# Altium integrated library EL.MBRD.T01.IntLib: 51 symbols
Pins are listed as number, name and electrical type; pins without a type are passive.

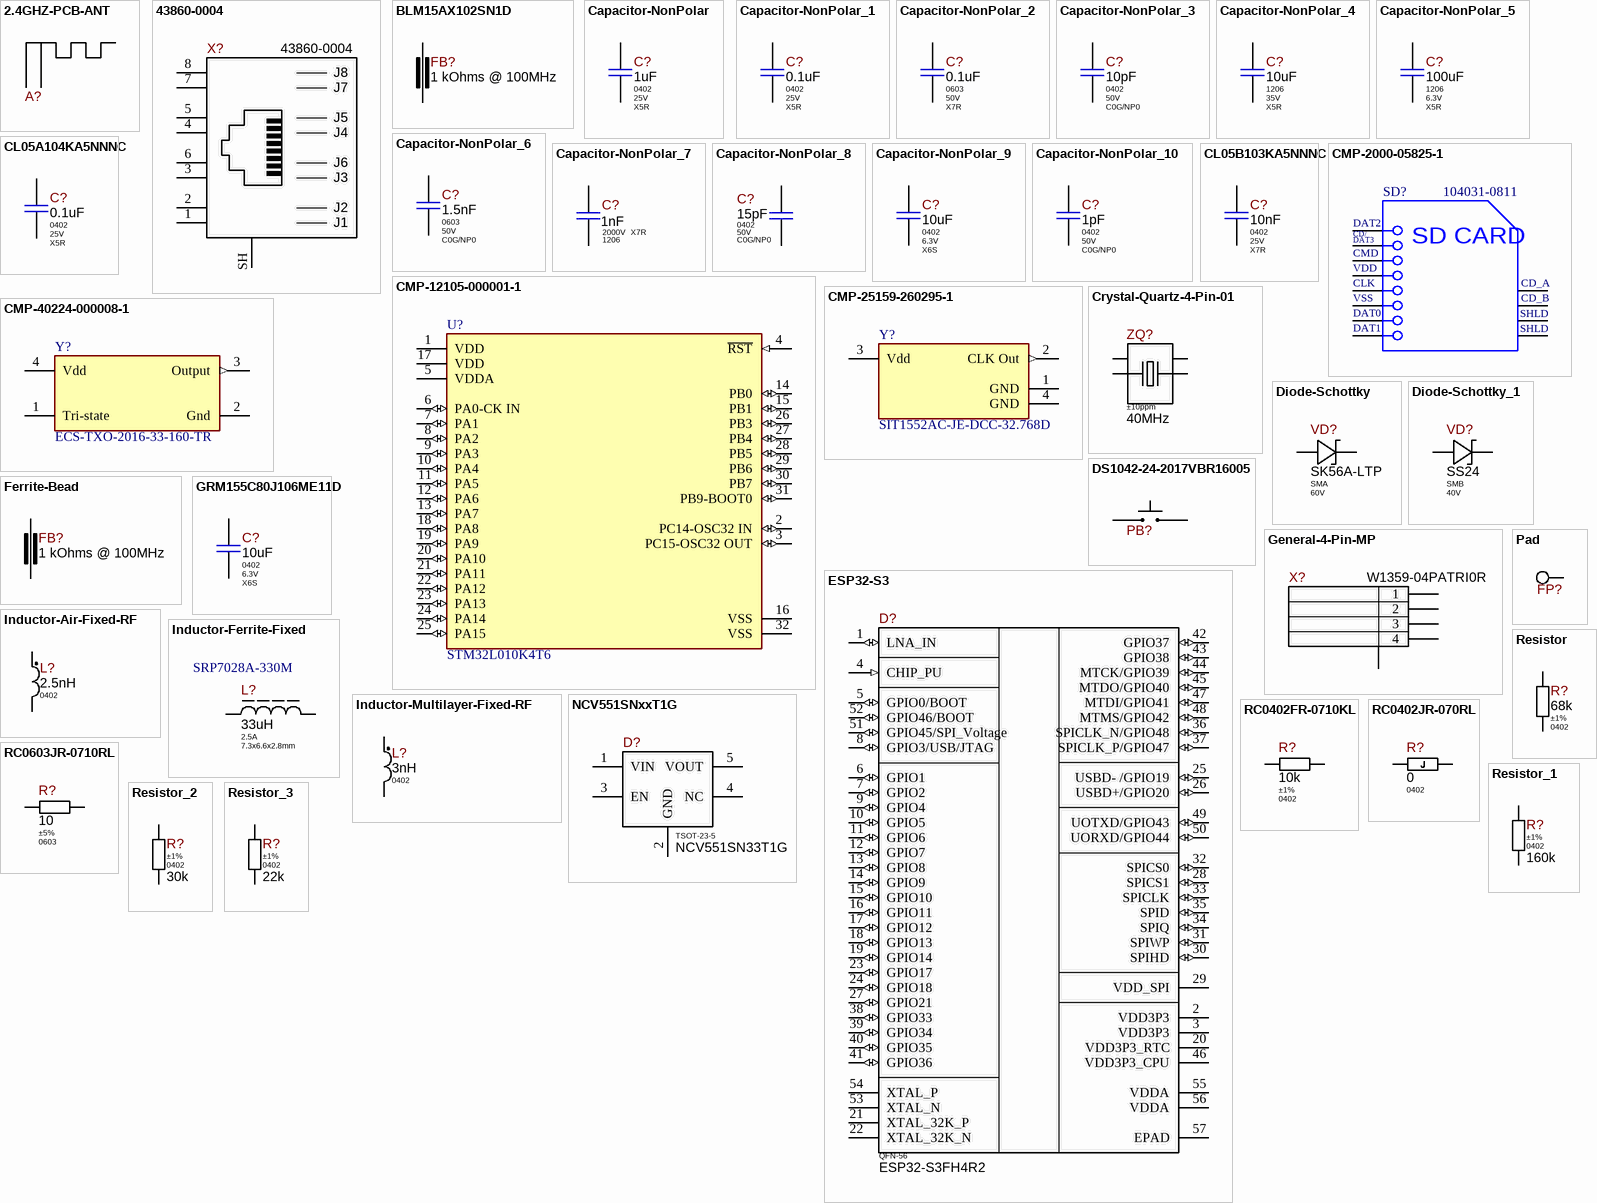
[diagram p0: symbols 2.4GHZ-PCB-ANT to Resistor_3]

## 2.4GHZ-PCB-ANT
designator A?, comment PCB Antenna 2.4GHz  (value not drawn)  (net tie, no BOM)
Part Number: 2.4GHZ-PCB-ANT; Replacement: NONE; Component Type: SMD; Temperature Range: NONE; ComponentLink1URL: NONE; Price: NONE; ComponentLink1Description: Datasheet
footprint PCB ANTENNA 2.4GHZ
pins: 1 FEED, 2 GND

## 43860-0004
designator X?
RJ45 8P8C Shielded Cat 3 10 Base-T Connector; Manufacturer: Molex; Component Status: Released; Replacement: NONE; Part Number: 43860-0004; Part Type: RJ-45; Component Type: PTH; Temperature Range: -40°C ~ 85°C; ComponentLink1URL: https://www.molex.com/pdm_docs/sd/438600004_sd.pdf; Supplier 1: Mouser; Supplier Part Number 1: 538-43860-0004; Price: 2.1435; ComponentLink1Description: Datasheet
footprint 43860-0004
pins: 1 TD4-, 2 TD4+, 3 TD3-, 4 TD3+, 5 CT, 6 CT, 7 TD2-, 8 TD2+, SH Shield
text: J8; J7; J5; J4; J6; J3; J2; J1

## BLM15AX102SN1D
designator FB?  value 1 kOhms @ 100MHz  (hidden comment: BLM15AX102SN1D)
1 kOhms @ 100MHz Ferrite Bead 0402, 350mA 490mOhm; Manufacturer: Murata Electronics; Current: 0.35A; Saturation Current: NONE; Tolerance: ±25%; Standard Lead Time: 7 Weeks; Component Status: Released; Package: 0402; Part Number: BLM15AX102SN1D; Part Type: Ferrite Bead; Component Type: SMD; Temperature Range: -55°C ~ 125°C; ComponentLink1URL: https://www.murata.com/en-us/products/productdata/8796740059166/ENFA0018.pdf; Supplier 1: Digi-Key; Supplier Part Number 1: 490-5442-2-ND; Replacement: NONE; Price: 0.00265; ComponentLink1Description: Datasheet
footprint BLM15xxxxxSN1x_MED
footprint BLM15xxxxxSN1x_HI
pins: 1, 2

## Capacitor-NonPolar
designator C?, comment Package: 0402  Voltage: 25V  Dielectric Type: X5R  (hidden comment: 1uF)
1uF 25V Х5R ±10% 0402 Ceramic Capacitor RoHS; Part Number: GRM155R61E105KA12D; Manufacturer: Murata Electronics; Standard Lead Time: 15 Weeks; Component Status: Released; Replacement: NONE; Value: 1uF; Part Type: Ceramic / X5R / 0402; Component Type: SMD; Temperature Range: -55°C ~ 85°C; Tolerance: ±10%; ComponentLink1URL: https://search.murata.co.jp/Ceramy/image/img/A01X/G101/ENG/GRM155R61E105KA12-01.pdf; Supplier 1: Digi-Key; Supplier Part Number 1: 490-10017-1-ND; Price: 0.0033; ComponentLink1Description: Datasheet
footprint C_CERAMIC_0402_MED
footprint C_CERAMIC_0402_HI
pins: 1, 2

## Capacitor-NonPolar_1
designator C?, comment Package: 0402  Voltage: 25V  Dielectric Type: X5R  (hidden comment: 0.1uF)
100nF 25V X5R ±10% 0402 Ceramic Capacitor RoHS; Part Number: CL05A104KA5NNNC; Manufacturer: Samsung Electro-Mechanics; Ajax_1C_ID: 27170; Ajax_1C_PN: 100nF 25V X5R 10% 0402 CL05A104KA5NNNC Ceramic Capacitor SMD RoHS; Standard Lead Time: 38 Weeks; Replacement: NONE; Ajax_1С_Status: Mass Production; Component Status: Released; GUID_1C: 6c9121f0-7733-11eb-ab70-0050569f2651; Value: 0.1uF; Part Type: Ceramic / X5R / 0402; Component Type: SMD; Temperature Range: -55°C ~ 85°C; Tolerance: ±10%; ComponentLink1URL: https://eu.mouser.com/datasheet/2/585/MLCC-1837944.pdf; Supplier 1: Mouser; Supplier Part Number 1: 187-CL05A104KA5NNNC; ComponentLink1Description: Datasheet; Price: 0.0013
footprint C_CERAMIC_0402_MED
footprint C_CERAMIC_0402_HI
pins: 1, 2

## Capacitor-NonPolar_2
designator C?, comment Package: 0603  Voltage: 50V  Dielectric Type: X7R  (hidden comment: 0.1uF)
100nF 50V X7R ±10% 0603 Ceramic Capacitor RoHS; Part Number: CL10B104KB8NNNC; Manufacturer: Samsung Electro-Mechanics; Standard Lead Time: 18 Weeks; Replacement: CL10B104KB8NNND; Component Status: Released; Value: 0.1uF; Part Type: Ceramic / X7R / 0603; Component Type: SMD; Temperature Range: -55°C ~ 125°C; Tolerance: ±10%; ComponentLink1URL: https://media.digikey.com/pdf/Data%20Sheets/Samsung%20PDFs/CL_Series_MLCC_ds.pdf; Supplier 1: Digi-Key; Supplier Part Number 1: 1276-1000-2-ND; ComponentLink1Description: Datasheet; Price: 0.00273
footprint C_CERAMIC_0603_MED
footprint C_CERAMIC_0603_HI
pins: 1, 2

## Capacitor-NonPolar_3
designator C?, comment Package: 0402  Voltage: 50V  Dielectric Type: C0G/NP0  (hidden comment: 10pF)
10pF 50V C0G ±5% 0402 Ceramic Capacitor RoHS; Part Number: CL05C100JB5NNNC; Manufacturer: Samsung Electro-Mechanics; Standard Lead Time: 28 Weeks; Replacement: NONE; Component Status: Released; Value: 10pF; Part Type: Ceramic / C0G(NP0) / 0402; Component Type: SMD; Temperature Range: -55°C ~ 125°C; Tolerance: ±5%; ComponentLink1URL: https://media.digikey.com/pdf/Data%20Sheets/Samsung%20PDFs/CL_Series_MLCC_ds.pdf; Supplier 1: Digi-Key; Supplier Part Number 1: 1276-1139-2-ND; ComponentLink1Description: Datasheet; Price: 0.00145
footprint C_CERAMIC_0402_MED
footprint C_CERAMIC_0402_HI
pins: 1, 2

## Capacitor-NonPolar_4
designator C?, comment Package: 1206  Voltage: 35V  Dielectric Type: X5R  (hidden comment: 10uF)
10uF 35V X5R ±10% 1206 Ceramic Capacitor RoHS; Part Number: GRM319R6YA106KA12D; Manufacturer: Murata Electronics; Standard Lead Time: NONE; Component Status: Released; Value: 10uF; Part Type: Ceramic / X5R / 1206; Component Type: SMD; Temperature Range: -55°C ~ 85°C; Tolerance: ±10%; ComponentLink1URL: https://search.murata.co.jp/Ceramy/image/img/A01X/G101/ENG/GRM319R6YA106KA12-01.pdf; Supplier 1: Digi-Key; Supplier Part Number 1: 490-9964-1-ND; Replacement: NONE; ComponentLink1Description: Datasheet; Price: 0.03648
footprint CAP-1206(3216)X85T15
pins: 1, 2

## Capacitor-NonPolar_5
designator C?, comment Package: 1206  Voltage: 6.3V  Dielectric Type: X5R  (hidden comment: 100uF)
100uF 6.3V X5R ±20% 1206 Ceramic Capacitor RoHS; Part Number: CL31A107MQHNNNE; Manufacturer: Samsung Electro-Mechanics; Standard Lead Time: 22 Weeks; Replacement: NONE; Component Status: Released; Value: 100uF; Part Type: Ceramic / X5R / 1206; Component Type: SMD; Temperature Range: -55°C ~ 85°C; Tolerance: ±20%; ComponentLink1URL: https://media.digikey.com/pdf/Data%20Sheets/Samsung%20PDFs/CL_Series_MLCC_ds.pdf; Supplier 1: Digi-Key; Supplier Part Number 1: 1276-1782-2-ND; ComponentLink1Description: Datasheet; Price: 0,05600243
footprint C_CERAMIC_1206_MED
footprint C_CERAMIC_1206_HI
pins: 1, 2

## Capacitor-NonPolar_6
designator C?, comment Package: 0603  Voltage: 50V  Dielectric Type: C0G/NP0  (hidden comment: 1.5nF)
1.5nF 50V C0G(NP0) ±5% 0603 Ceramic Capacitor RoHS; Part Number: GRM1885C1H152JA01D; Manufacturer: Murata Electronics; Standard Lead Time: 22 Weeks; Component Status: Released; Replacement: NONE; Value: 1.5nF; Part Type: Ceramic / C0G(NP0) / 0603; Component Type: SMD; Temperature Range: -55°C ~ 125°C; Tolerance: ±5%; ComponentLink1URL: https://eu.mouser.com/datasheet/2/281/1/GRM1885C1H152JA01_01A-1984714.pdf; Supplier 1: Mouser; Supplier Part Number 1: 81-GRM1885C1H152JA01; Price: 0.00446; ComponentLink1Description: Datasheet
footprint C_CERAMIC_0603_MED
footprint C_CERAMIC_0603_HI
pins: 1, 2

## Capacitor-NonPolar_7
designator C?, comment Package: 1206  Voltage: 2000V  Dielectric Type: X7R  (hidden comment: 1nF)
1nF 2000V X7R ±10% 1206 Ceramic Capacitor RoHS; Part Number: CC1206KKX7RDBB102; Manufacturer: Yageo; Replacement: NONE; Value: 1nF; Part Type: Ceramic / X7R / 1206; Component Type: SMD; Temperature Range: -55°C ~ 125°C; Tolerance: ±10%; ComponentLink1URL: https://www.yageo.com/upload/media/product/products/datasheet/mlcc/UPY-NP0X7R_HV_1KV-to-3KV_11.pdf; Supplier 1: Digi-Key; Supplier Part Number 1: 311-1487-2-ND; ComponentLink1Description: Datasheet
footprint CAP-1206(3216)X125T20
pins: 1, 2

## Capacitor-NonPolar_8
designator C?, comment Package: 0402  Voltage: 50V  Dielectric Type: C0G/NP0  (hidden comment: 15pF)
15pF 50V C0G ±1% 0402 Ceramic Capacitor RoHS; Part Number: GRM1555C1H150FA01D; Manufacturer: Murata Electronics; Standard Lead Time: 15 Weeks; Replacement: NONE; Component Status: Released; Value: 15pF; Part Type: Ceramic / C0G(NP0) / 0402; Component Type: SMD; Temperature Range: -55°C ~ 125°C; Tolerance: ±1%; ComponentLink1URL: https://search.murata.co.jp/Ceramy/image/img/A01X/G101/ENG/GRM1555C1H150FA01-01.pdf; Supplier 1: Digi-Key; Supplier Part Number 1: 490-6200-2-ND; ComponentLink1Description: Datasheet; Price: 0.00485
footprint C_CERAMIC_0402_MED
footprint C_CERAMIC_0402_HI
pins: 1, 2

## Capacitor-NonPolar_9
designator C?, comment Package: 0402  Voltage: 6.3V  Dielectric Type: X6S  (hidden comment: 10uF)
10uF 6.3V X6S ±20% 0402 Ceramic Capacitor RoHS; Part Number: GRM155C80J106ME11D; Manufacturer: Murata Electronics; Standard Lead Time: 15 Weeks; Replacement: NONE; Component Status: Released; Value: 10uF; Part Type: Ceramic / X6S / 0402; Component Type: SMD; Temperature Range: -55°C ~ 105°C; Tolerance: ±20%; ComponentLink1URL: https://search.murata.co.jp/Ceramy/image/img/A01X/G101/ENG/GRM155C80J106ME11-01.pdf; Supplier 1: Digi-Key; Supplier Part Number 1: 490-13233-1-ND; ComponentLink1Description: Datasheet; Price: 0,01104
footprint C_CERAMIC_0402_MED
footprint C_CERAMIC_0402_HI
pins: 1, 2

## Capacitor-NonPolar_10
designator C?, comment value 1pF  Package: 0402  Voltage: 50V  Dielectric Type: C0G/NP0  (hidden comment: 1.0pF)
1.0pF 50V NP0 ±0.1pF 0402 Ceramic Capacitor RoHS; Part Number: CL05C010BB5NNNC; Manufacturer: Samsung Electro-Mechanics; Standard Lead Time: 22 Weeks; Replacement: NONE; Component Status: Released; Part Type: Ceramic / C0G(NP0) / 0402; Component Type: SMD; Temperature Range: -55°C ~ 125°C; Tolerance: ±0.1pF; ComponentLink1URL: https://media.digikey.com/pdf/Data%20Sheets/Samsung%20PDFs/CL_Series_MLCC_ds.pdf; Supplier 1: Digi-Key; Supplier Part Number 1: 1276-1237-2-ND; Price: 0,00237556; ComponentLink1Description: Datasheet
footprint C_CERAMIC_0402_MED
footprint C_CERAMIC_0402_HI
pins: 1, 2

## CL05A104KA5NNNC
designator C?, comment Package: 0402  Voltage: 25V  Dielectric Type: X5R  (hidden comment: 0.1uF)
100nF 25V X5R ±10% 0402 Ceramic Capacitor RoHS; Part Number: CL05A104KA5NNNC; Manufacturer: Samsung Electro-Mechanics; Standard Lead Time: 38 Weeks; Replacement: NONE; Component Status: Released; Value: 0.1uF; Part Type: Ceramic / X5R / 0402; Component Type: SMD; Temperature Range: -55°C ~ 85°C; Tolerance: ±10%; ComponentLink1URL: https://eu.mouser.com/datasheet/2/585/MLCC-1837944.pdf; Supplier 1: Mouser; Supplier Part Number 1: 187-CL05A104KA5NNNC; ComponentLink1Description: Datasheet; Price: 0.0013
footprint C_CERAMIC_0402_MED
footprint C_CERAMIC_0402_HI
pins: 1, 2

## CL05B103KA5NNNC
designator C?, comment Package: 0402  Voltage: 25V  Dielectric Type: X7R  (hidden comment: 10nF)
10nF 25V X7R ±10% 0402 Ceramic Capacitor RoHS; Part Number: CL05B103KA5NNNC; Manufacturer: Samsung Electro-Mechanics; Component Status: Released; Standard Lead Time: 28 Weeks; Replacement: NONE; Value: 10nF; Part Type: Ceramic / X7R / 0402; Component Type: SMD; Temperature Range: -55°C ~ 125°C; Tolerance: ±10%; ComponentLink1URL: https://eu.mouser.com/datasheet/2/585/MLCC-1837944.pdf; Supplier 1: Mouser; Supplier Part Number 1: 187-CL05B103KA5NNNC; Price: 0.00145; ComponentLink1Description: Datasheet
footprint C_CERAMIC_0402_MED
footprint C_CERAMIC_0402_HI
pins: 1, 2

## CMP-2000-05825-1
designator SD?, comment 104031-0811
Micro SD Card, RA, -25 to 85 degC, 8-Pin SMD, RoHS, Tape and Reel; Voltage Rating: 10VAC/DC; Number of Contacts: 8; Insertion - Extraction Style: Push-Pull; Pitch: 1.1mm; Mating Cycles: 10000; Brand: Molex; Current Rating: 500mA; Manufacturer URL: http://www.molex.com/; Card Type: microSD; Mounting Type: Standard; Height: 1.42mm; Mounting Technology: SurfaceMount; Contact Plating: Gold; Product Category: MemoryCardConnectors; Package Description: 8-Pin Surface Mount Device, Body 11.95 x 11.4 mm, Pitch 1.1 mm; Datasheet URL: http://www.molex.com/pdm_docs/sd/1040310811_sd.pdf; Termination Style: SMD; Length: 11.4mm; Housing Material: LiquidCrystalPolymer(LCP); Orientation: RightAngle; RoHS: True; Contact Material: PhosphorBronze; Datasheet Version: Rev. E, 04/2006; Packaging: Reel; Manufacturer: Molex; Series: 104031; Product: CardConnectors; Number of Rows: 1Row; Package Reference: 104031-0811
footprint MOLX-104031-0811_V (Micro SD, 8-Leads, Body 11.95x11.4mm, Pitch 1.1mm)
pins: 1 CD/DAT3, 2 CMD, 3 VSS1, 4 VDD, 5 CLK, 6 VSS2, 7 DAT0, 8 DAT1, 9 CD_A, 10 CD_B, 11 SHLD1, 12 SHLD2
text: DAT2; CD/; DAT3; SD CARD; VSS; SHLD

## CMP-12105-000001-1
designator U?, comment STM32L010K4T6
16/32-BITS MICROS; Manufacturer: STMicroelectronics; Number Of Cores: 1; Core Architecture: ARM Cortex-M0+; Number Of Adc Channels: 10; Data Bus Width: 32bits; Frequency: 32MHz; Number Of I/Os: 26; Memory Size: 16KBytes; Max Junction Temp: +105°C; Memory Type: FLASH; Number Of Uart Channels: 2; Ram Size: 2KBytes; Number Of Timers/Counters: 5; Nominal Supply Current: 22-5400uA; Interface: I2C,SPI,UART,USART,SMBus; Min Supply Voltage: 1.8V; Max Supply Voltage: 3.6V; Standoff Height: 0.05mm; ComponentLink2Description: Datasheet; Temperature Range High: +85°C; Device Class L2: Embedded Processors and Controllers; Package: LQFP32-5V; Manufacturer Part Number: STM32L010K4T6; Ambient Temperature Range Low: -40°C; RoHS: TRUE; Digikey Description: 16/32-BITS MICROS; Lead Free: Yes; Category: IC; Height: 1.6mm; ComponentLink2URL: https://www.st.com/resource/en/datasheet/stm32l010f4.pdf; Temperature Range Low: -40°C; Automotive: No; Device Class L3: Microcontrollers; Device Class L1: Integrated Circuits (ICs); Octopart: https://octopart.com/stm32l010k4t6-stmicroelectronics-96493833; Temperature: -40°C to +85°C; Number Of Spi Channels: 1; Number Of I2C Channels: 1; Ambient Temperature Range High: +85°C; Number Of A/D Converters: 1; Part Number: STM32L010K4T6; Supplier 1: Mouser; Supplier Part Number 1: 511-STM32L010K4T6
footprint FP-LQFP32-5V-MFG
footprint FP-LQFP32-5V-IPC_C
footprint FP-LQFP32-5V-IPC_B
footprint FP-LQFP32-5V-IPC_A
pins: 1 VDD (power), 2 PC14-OSC32 IN (io), 3 PC15-OSC32 OUT (io), 4 ~{RST} (in), 5 VDDA (power), 6 PA0-CK IN (io), 7 PA1 (io), 8 PA2 (io), 9 PA3 (io), 10 PA4 (io), 11 PA5 (io), 12 PA6 (io), 13 PA7 (io), 14 PB0 (io), 15 PB1 (io), 16 VSS (power), 17 VDD (power), 18 PA8 (io), 19 PA9 (io), 20 PA10 (io), 21 PA11 (io), 22 PA12 (io), 23 PA13 (io), 24 PA14 (io), 25 PA15 (io), 26 PB3 (io), 27 PB4 (io), 28 PB5 (io), 29 PB6 (io), 30 PB7 (io), 31 PB9-BOOT0 (io), 32 VSS (power)

## CMP-25159-260295-1
designator Y?, comment SIT1552AC-JE-DCC-32.768D
MEMS OSC TCXO 32.7680KHZ LVCMOS; Frequency Stability: 5ppm; Frequency: 32.768kHz; Min Operating Temperature: 0°C; Length: 0.061inch; Mount: Surface Mount; Max Operating Temperature: 70°C; Width: 0.033inch; RoHS Compliant: Yes; Series: SiT1552; Packaging: Cut Tape; Height: 0.024inch; ComponentLink1Description: Datasheet; ComponentLink1URL: https://eu.mouser.com/datasheet/2/371/SiT1552_datasheet-1511133.pdf; Part Number: SIT1552AC-JE-DCC-32.768D; Supplier 1: Mouser; Supplier Part Number 1: 788-1552ACJEDCC32.7D
footprint FP-SiT1552-J-MFG
pins: 1 GND (power), 2 CLK Out (out), 3 Vdd (power), 4 GND (power)

## CMP-40224-000008-1
designator Y?, comment ECS-TXO-2016-33-160-TR
XTAL OSC TCXO 16MHZ 3.3V SMD; Manufacturer: ECS; Max Supply Voltage: 3.63V; Max Supply Current: 7mA; Stability: 2ppm; Min Supply Voltage: 2.97V; Load Capacitance: 15pF; Frequency: 16MHz; Device Class L1: Passive Components; Manufacturer Part Number: ECS-TXO-2016-33-160-TR; Digikey Description: XTAL OSC TCXO 16MHZ 3.3V SMD; Device Class L3: Oscillators; Category: Crys; Lead Free: Yes; Temperature: -40°C to +85°C; RoHS: TRUE; ComponentLink2Description: Datasheet; Octopart: https://octopart.com/ecs-txo-2016-33-160-tr-ecs+international-102811109; ComponentLink2URL: https://ecsxtal.com/store/pdf/ECS-TXO-2016.pdf; Temperature Range High: +85°C; Height: 0.8mm; Device Class L2: Crystals / Oscillators; Package: TXO-2016; Temperature Range Low: -40°C; Series: TXO-2016; Automotive: No; Part Number: ECS-TXO-2016-33-160-TR; Supplier 1: Mouser; Supplier Part Number 1: 520-TXO-2016-33-160T
footprint FP-TXO-2016-MFG
pins: 1 Tri-state, 2 Gnd (power), 3 Output (out), 4 Vdd (power)

## Crystal-Quartz-4-Pin-01
designator ZQ?, comment Frequency Tolerance: ±10ppm  Frequency: 40MHz  (hidden comment: CXA-040000-2F8F31)
40MHz 10pF ±10ppm, 60Ohm ESR, 100uW DL Crystal Quartz; Manufacturer: Aker; Standard Lead Time: NONE; Component Status: Released; Part Number: CXA-040000-2F8F31; Part Type: Crystal; Component Type: SMD; Load Capacitance: 10pF; Frequency Stability: ±10ppm; Temperature Range: -20°C ~ 75 °C; ComponentLink1URL: \\altiumdb.ajax.local\files\Datasheet\Oscillators\CXA-040000-2F8F31-1.pdf; Replacement: NONE; ComponentLink1Description: Datasheet; Price: 0,17
footprint CXA-221_REC
pins: 1 XTAL1, 2 NC1, 3 XTAL2, 4 NC2

## Diode-Schottky
designator VD?, comment Package: SMA  Voltage: 60V  (hidden comment: SK56A-LTP)
Diode Schottky 60V 5A, SMA; Manufacturer: Micro Commercial Components; Marking: SK56A; Standard Lead Time: 12 Weeks; Vf: 750mV @ 5A; Replacement: NONE; Component Status: Released; Part Number: SK56A-LTP; Part Type: Schottky; Component Type: SMD; Current: 5A; Temperature Range: -55°C ~ 150°C; ComponentLink1URL: \\altiumdb.ajax.local\files\Datasheet\Diodes\SK52A-L-SK510A-L(DO-214AC).pdf; Supplier 1: Digi-Key; Supplier Part Number 1: SK56A-LTPMSTR-ND; ComponentLink1Description: Datasheet; Price: 0.06
footprint SMA_MED
footprint SMA_HI
pins: AN, CA

## Diode-Schottky_1
designator VD?, comment Package: SMB  Voltage: 40V  (hidden comment: SS24)
Diode Schottky 40V 2A, SMB; Manufacturer: Vishay Semiconductor; Component Status: Released; Standard Lead Time: 11 Weeks; Vf: 500mV @ 2A; Replacement: NONE; Part Number: SS24; Part Type: Schottky; Component Type: SMD; Marking: SS24; Current: 2A; Temperature Range: -65°C ~ 125°C; ComponentLink1URL: https://www.vishay.com/docs/88748/ss22.pdf; Supplier 1: Digi-Key; Supplier Part Number 1: SS24-E3/52TGITR-ND; Price: 0.03; ComponentLink1Description: Datasheet
footprint SMB_MED
footprint SMB_HI
pins: AN, CA

## DS1042-24-2017VBR16005
designator PB?  (value not drawn)
Tactile Switch 2.5x3mm, SMD, 160gf, Height 1.7mm, 50mA 12VDC; Manufacturer: Connfly; Replacement: NONE; Part Number: DS1042-24-2017VBR16005; Part Type: Switch / Tactile; Component Type: SMD; Temperature Range: -20°C ~ 70°C
footprint DS1042-24-2017VB
pins: 1, 2

## ESP32-S3
designator D?, comment Package: QFN-56  (hidden comment: ESP32-S3FH4R2)
2.4GHz WiFi 802.11b/g/n, Bluetooth v5.0 Transceiver Module, 2 MB DRAM, 150 Mb/s max, QFN-56; Manufacturer: Espressif; Standard Lead Time: 11 Weeks; Component Status: Released; Replacement: NONE; Part Number: ESP32-S3FH4R2; Part Type: SoC / Bluetooth, Wi-Fi; Component Type: SMD; Temperature Range: -40°C ~ 105°C; ComponentLink1URL: https://www.espressif.com/sites/default/files/documentation/esp32-s3_datasheet_en.pdf; Supplier 1: Mouser; Supplier Part Number 1: 356-ESP32-S3FH4R2; Price: 2,4; ComponentLink1Description: Datasheet
footprint QFN-56_ESP32_7X7_EXP
pins: 1 LNA_IN (io), 2 VDD3P3, 3 VDD3P3, 4 CHIP_PU (in), 5 GPIO0/BOOT (io), 6 GPIO1 (io), 7 GPIO2 (io), 8 GPIO3/USB/JTAG (io), 9 GPIO4 (io), 10 GPIO5 (io), 11 GPIO6 (io), 12 GPIO7 (io), 13 GPIO8 (io), 14 GPIO9 (io), 15 GPIO10 (io), 16 GPIO11 (io), 17 GPIO12 (io), 18 GPIO13 (io), 19 GPIO14 (io), 20 VDD3P3_RTC, 21 XTAL_32K_P, 22 XTAL_32K_N, 23 GPIO17 (io), 24 GPIO18 (io), 25 USBD- /GPIO19 (io), 26 USBD+/GPIO20 (io), 27 GPIO21 (io), 28 SPICS1 (io), 29 VDD_SPI, 30 SPIHD (io), 31 SPIWP (io), 32 SPICS0 (io), 33 SPICLK (io), 34 SPIQ (io), 35 SPID (io), 36 SPICLK_N/GPIO48 (io), 37 SPICLK_P/GPIO47 (io), 38 GPIO33 (io), 39 GPIO34 (io), 40 GPIO35 (io), 41 GPIO36 (io), 42 GPIO37 (io), 43 GPIO38 (io), 44 MTCK/GPIO39 (io), 45 MTDO/GPIO40 (io), 46 VDD3P3_CPU, 47 MTDI/GPIO41 (io), 48 MTMS/GPIO42 (io), 49 UOTXD/GPIO43 (io), 50 UORXD/GPIO44 (io), 51 GPIO45/SPI_Voltage (io), 52 GPIO46/BOOT (io), 53 XTAL_N, 54 XTAL_P, 55 VDDA, 56 VDDA, 57 EPAD

## Ferrite-Bead
designator FB?, comment value 1 kOhms @ 100MHz  (hidden comment: BLM15AX102SN1D)
1 kOhms @ 100MHz Ferrite Bead 0402, 350mA 490mOhm; Manufacturer: Murata Electronics; Current: 0.35A; Saturation Current: NONE; Tolerance: ±25%; Standard Lead Time: 7 Weeks; Component Status: Released; Package: 0402; Part Number: BLM15AX102SN1D; Part Type: Ferrite Bead; Component Type: SMD; Temperature Range: -55°C ~ 125°C; ComponentLink1URL: https://www.murata.com/en-us/products/productdata/8796740059166/ENFA0018.pdf; Supplier 1: Digi-Key; Supplier Part Number 1: 490-5442-2-ND; Replacement: NONE; Price: 0.00265; ComponentLink1Description: Datasheet
footprint BLM15xxxxxSN1x_MED
footprint BLM15xxxxxSN1x_HI
pins: 1, 2

## General-4-Pin-MP
designator X?, comment W1359-04PATRI0R
1.25mm Wire-to-Board Header, Vertical, SMT, 4 pin; Manufacturer: Hsuan Mao Technology; Component Status: Released; Replacement: 53398-0471; Part Number: W1359-04PATRI0R; Part Type: Wire-to-Board / 1.25mm; Component Type: SMD; Temperature Range: -40°C ~ 85°C; Price: 0.06
footprint W1359-04PATXI0R_REC
footprint W1359-04PATXI0R_DBG
pins: 1, 2, 3, 4, MP MountPad

## GRM155C80J106ME11D
designator C?, comment Package: 0402  Voltage: 6.3V  Dielectric Type: X6S  (hidden comment: 10uF)
10uF 6.3V X6S ±20% 0402 Ceramic Capacitor RoHS; Part Number: GRM155C80J106ME11D; Manufacturer: Murata Electronics; Component Status: Released; Standard Lead Time: 15 Weeks; Replacement: NONE; Value: 10uF; Part Type: Ceramic / X6S / 0402; Component Type: SMD; Temperature Range: -55°C ~ 105°C; Tolerance: ±20%; ComponentLink1URL: https://search.murata.co.jp/Ceramy/image/img/A01X/G101/ENG/GRM155C80J106ME11-01.pdf; Supplier 1: Digi-Key; Supplier Part Number 1: 490-13233-1-ND; Price: 0.01104; ComponentLink1Description: Datasheet
footprint C_CERAMIC_0402_MED
footprint C_CERAMIC_0402_HI
pins: 1, 2

## Inductor-Air-Fixed-RF
designator L?, comment Package: 0402  (hidden comment: 2.5nH)
2.5nH Unshielded Wirewound RF Inductor 2.1A 30mOhm Max, 0402; Part Number: LQW15AN2N5C80D; Manufacturer: Murata Electronics; Saturation Current: NONE; Tolerance: ±0.2nH; Standard Lead Time: 6 Weeks; Component Status: Released; Value: 2.5nH; Part Type: RF / Wirewound; Current: 2.1A; Component Type: SMD; Temperature Range: -55°C ~ 125°C; ComponentLink1URL: https://eu.mouser.com/datasheet/2/281/1/JELF243A_0100-1380931.pdf; Supplier 1: Mouser; Supplier Part Number 1: 81-LQW15AN2N5C80D; Replacement: NONE; Price: 0,1318; ComponentLink1Description: Datasheet
footprint LQW15ANxxxx00x_REC
footprint LQW15ANxxxx00x_MED
footprint RLC_0402_MED_UNI
pins: 1, 2

## Inductor-Ferrite-Fixed
designator L?, comment Current: 2.5A  Package: 7.3x6.6x2.8mm  Part Number: SRP7028A-330M  (hidden comment: 33uH)
33uH Shielded Wirewound Power Inductor 2.5A 240mOhm Max; Manufacturer: Bourns Inc; Tolerance: ±20%; Component Status: Released; Standard Lead Time: 24 Weeks; Replacement: NONE; Value: 33uH; Part Type: Power / Ferrite Core; Saturation Current: 2.5A; Component Type: SMD; Temperature Range: -40°C ~ 150°C; ComponentLink1URL: https://eu.mouser.com/datasheet/2/54/srp7028a-1391359.pdf; Supplier 1: Mouser; Supplier Part Number 1: 652-SRP7028A-330M; Price: 0.807; ComponentLink1Description: Datasheet
footprint SRP7028A-Series
pins: 1, 2

## Inductor-Multilayer-Fixed-RF
designator L?, comment Package: 0402  (hidden comment: 3nH)
3nH Unshielded Multilayer Inductor 800mA 200mOhm Max, 0402; Part Number: MLG1005S3N0ST000; Manufacturer: TDK; Current: 0.8A; Saturation Current: NONE; Tolerance: ±0.3nH; Standard Lead Time: 12 Weeks; Component Status: Released; Value: 3nH; Part Type: RF / Multilayer; Component Type: SMD; Temperature Range: -55°C ~ 125°C; ComponentLink1URL: https://product.tdk.com/info/en/catalog/datasheets/inductor_commercial_high-frequency_mlg1005s_en.pdf; Supplier 1: Digi-Key; Supplier Part Number 1: 445-3046-2-ND; Replacement: NONE; Price: 0,01134067; ComponentLink1Description: Datasheet
footprint MLG1005S_MED
footprint MLG1005S-Series
pins: 1, 2

## NCV551SNxxT1G
designator D?, comment Package: TSOT-23-5  (hidden comment: NCV551SN33T1G)
Fixed 3.3V, 150mA Output, 12V max Input, 4uA Iq, LDO, TSOT-23-5; Manufacturer: Onsemi; Standard Lead Time: 53 Weeks; Component Status: Released; Replacement: NONE; Part Type: Power / Linear Regulator; Component Type: SMD; Temperature Range: -40°C ~ 125°C; ComponentLink1URL: https://eu.mouser.com/datasheet/2/308/NCP551_D-1812664.pdf; Supplier 1: Mouser; Supplier Part Number 1: 863-NCV551SN33T1G; Price: 0.23211881; ComponentLink1Description: Datasheet; Part Number: NCV551SN33T1G
footprint TSOT-23-5
pins: 1 VIN, 2 GND, 3 EN, 4 NC, 5 VOUT

## Pad
designator FP?, comment PAD-1.1mm  (value not drawn)  (no BOM)
1.1mm Pad for Plug-In or Receptacle; Manufacturer: NONE; Component Status: Released; Part Number: PAD-1.1mm; Component Type: PTH; Part Type: Pad; Temperature Range: NONE; ComponentLink1URL: NONE; Replacement: NONE; ComponentLink1Description: Datasheet; Price: NONE
footprint PAD-1.1mm
pins: 1

## RC0402FR-0710KL
designator R?, comment Tolerance: ±1%  Package: 0402  (hidden comment: 10k)
10 kOhms ±1% 1/16W 0402 Thick Film Resistor; Part Number: RC0402FR-0710KL; Manufacturer: Yageo; Power Rating: 0.062W; Voltage: 50V; Temperature Stability: ±100ppm/°C; Replacement: NONE; Component Status: Released; Value: 10k; Component Type: SMD; Temperature Range: -55°C ~ 155°C; ComponentLink1URL: https://eu.mouser.com/datasheet/2/447/PYu_RC_Group_51_RoHS_L_10-1664068.pdf; Supplier 1: Digi-Key; Supplier Part Number 1: 311-10.0KLRTR-ND; ComponentLink1Description: Datasheet; Part Type: Thick Film; Price: 0,00065
footprint R_ANY_CHIP_0402_MED
footprint R_ANY_CHIP_0402_HI
pins: 1, 2

## RC0402JR-070RL
designator R?, comment Package: 0402  (hidden comment: 0)
0 Ohms Jumper ±5% 1/16W 0402 Thick Film Resistor; Part Number: RC0402JR-070RL; Manufacturer: Yageo; Power Rating: 0.062W; Voltage: 50V; Component Status: Released; Temperature Stability: NONE; Tolerance: ±5%; Value: 0; Component Type: SMD; Part Type: Thick Film; Temperature Range: -55°C ~ 155°C; ComponentLink1URL: https://eu.mouser.com/datasheet/2/447/PYu_RC_Group_51_RoHS_L_10-1664068.pdf; Supplier 1: Digi-Key; Supplier Part Number 1: 311-0.0JRTR-ND; Replacement: NONE; Price: 0.00045; ComponentLink1Description: Datasheet
footprint R_ANY_CHIP_0402_MED
footprint R_ANY_CHIP_0402_HI
footprint RLC_0402_MED_UNI
pins: 1, 2

## RC0603JR-0710RL
designator R?, comment Tolerance: ±5%  Package: 0603  (hidden comment: 10)
10 Ohms ±5%, 1/10W 0603 Thick Film Resistor; Part Number: RC0603JR-0710RL; Manufacturer: Yageo; Power Rating: 0.1W; Voltage: 75V; Component Status: Released; Temperature Stability: ±200ppm/°C; Replacement: NONE; Value: 10; Component Type: SMD; Part Type: Thick Film; Temperature Range: -55°C ~ 155°C; ComponentLink1URL: https://eu.mouser.com/datasheet/2/447/Yageo_03_18_2021_PYu_RC_Group_51_RoHS_L_11-2199992.pdf; Supplier 1: Mouser; Supplier Part Number 1: 603-RC0603JR-0710RL; Price: 0.0006; ComponentLink1Description: Datasheet
footprint R_ANY_CHIP_0603_MED
footprint R_ANY_CHIP_0603_HI
pins: 1, 2

## Resistor
designator R?, comment Tolerance: ±1%  Package: 0402  (hidden comment: 68k)
68 kOhms ±1% 1/16W 0402 Thick Film Resistor; Part Number: RC0402FR-0768KL; Manufacturer: Yageo; Power Rating: 0.062W; Voltage: 50V; Temperature Stability: ±100ppm/°C; Replacement: NONE; Component Status: Released; Value: 68k; Component Type: SMD; Temperature Range: -55°C ~ 155°C; ComponentLink1URL: https://eu.mouser.com/datasheet/2/447/PYu_RC_Group_51_RoHS_L_11-1984063.pdf; Supplier 1: Digi-Key; Supplier Part Number 1: 311-68.0KLRTR-ND; ComponentLink1Description: Datasheet; Part Type: Thick Film; Price: 0,00065051
footprint R_ANY_CHIP_0402_MED
footprint R_ANY_CHIP_0402_HI
pins: 1, 2

## Resistor_1
designator R?, comment Tolerance: ±1%  Package: 0402  (hidden comment: 160k)
160 kOhms ±1% 1/16W 0402 Thick Film Resistor; Part Number: RC0402FR-07160KL; Manufacturer: Yageo; Power Rating: 0.062W; Voltage: 50V; Temperature Stability: ±100ppm/°C; Replacement: NONE; Component Status: Released; Value: 160k; Component Type: SMD; Temperature Range: -55°C ~ 155°C; ComponentLink1URL: https://eu.mouser.com/datasheet/2/447/PYu_RC_Group_51_RoHS_L_11-1984063.pdf; ComponentLink1Description: Datasheet; Part Type: Thick Film; Price: 0,0005
footprint R_ANY_CHIP_0402_MED
footprint R_ANY_CHIP_0402_HI
pins: 1, 2

## Resistor_2
designator R?, comment Tolerance: ±1%  Package: 0402  (hidden comment: 30k)
30 kOhms ±1% 1/16W 0402 Thick Film Resistor; Part Number: RC0402FR-0730KL; Manufacturer: Yageo; Power Rating: 0.062W; Voltage: 50V; Temperature Stability: ±100ppm/°C; Replacement: NONE; Component Status: Released; Value: 30k; Component Type: SMD; Temperature Range: -55°C ~ 155°C; ComponentLink1URL: https://eu.mouser.com/datasheet/2/447/PYu_RC_Group_51_RoHS_L_11-1984063.pdf; Supplier 1: Digi-Key; Supplier Part Number 1: 311-30.0KLRTR-ND; ComponentLink1Description: Datasheet; Part Type: Thick Film; Price: 0,00065
footprint R_ANY_CHIP_0402_MED
footprint R_ANY_CHIP_0402_HI
pins: 1, 2

## Resistor_3
designator R?, comment Tolerance: ±1%  Package: 0402  (hidden comment: 22k)
22 kOhms ±1% 1/16W 0402 Thick Film Resistor; Part Number: RC0402FR-0722KL; Manufacturer: Yageo; Power Rating: 0.062W; Voltage: 50V; Temperature Stability: ±100ppm/°C; Replacement: NONE; Component Status: Released; Value: 22k; Component Type: SMD; Temperature Range: -55°C ~ 155°C; ComponentLink1URL: https://eu.mouser.com/datasheet/2/447/PYu_RC_Group_51_RoHS_L_10-1664068.pdf; ComponentLink1Description: Datasheet; Part Type: Thick Film; Price: 0,00065038
footprint R_ANY_CHIP_0402_MED
footprint R_ANY_CHIP_0402_HI
pins: 1, 2

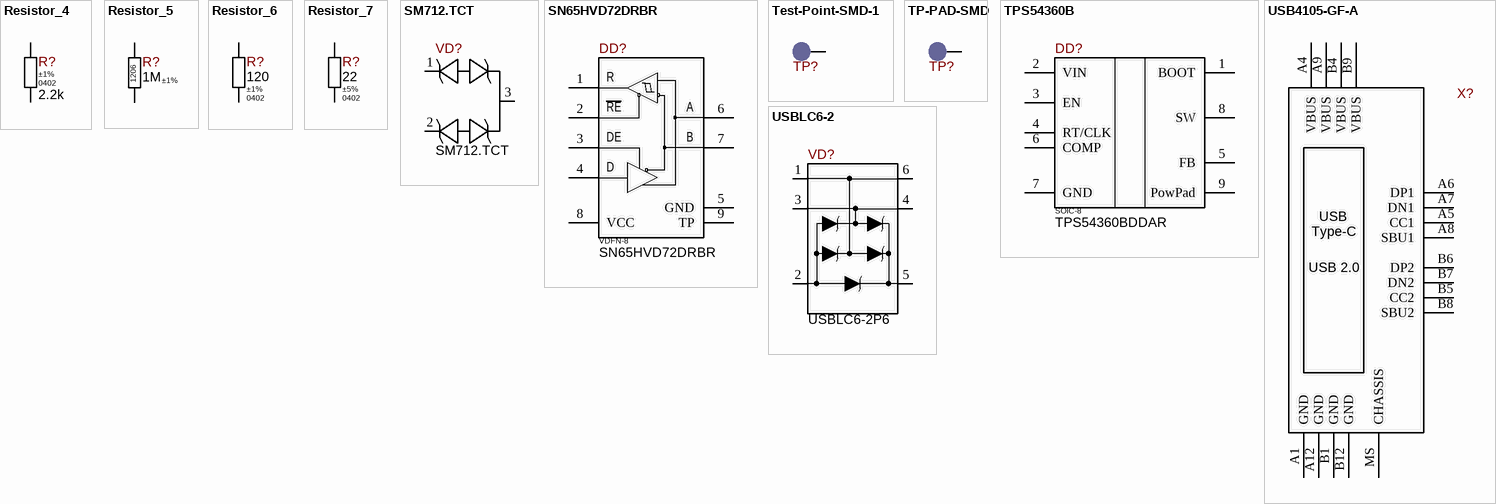
[diagram p1: symbols Resistor_4 to USBLC6-2]

## Resistor_4
designator R?, comment Tolerance: ±1%  Package: 0402  (hidden comment: 2.2k)
2.2 kOhms ±1% 1/16W 0402 Thick Film Resistor; Part Number: RC0402FR-072K2L; Manufacturer: Yageo; Power Rating: 0.062W; Voltage: 50V; Temperature Stability: ±100ppm/°C; Replacement: NONE; Component Status: Released; Value: 2.2k; Component Type: SMD; Temperature Range: -55°C ~ 155°C; ComponentLink1URL: https://eu.mouser.com/datasheet/2/447/PYu_RC_Group_51_RoHS_L_11-1984063.pdf; ComponentLink1Description: Datasheet; Part Type: Thick Film; Price: 0,00065
footprint R_ANY_CHIP_0402_MED
footprint R_ANY_CHIP_0402_HI
pins: 1, 2

## Resistor_5
designator R?, comment Tolerance: ±1%  Package: 1206  (hidden comment: 1M)
1 MOhms ±1%, 1/4W 1206 Thick Film Resistor; Part Number: CHV1206-FX-1004ELF; Manufacturer: Bourns; Power Rating: 0.25W; Voltage: 800V; Component Status: Released; Temperature Stability: ±100ppm/°C; Replacement: NONE; Value: 1M; Component Type: SMD; Part Type: Thick Film; Temperature Range: -55°C ~ 155°C; ComponentLink1URL: https://eu.mouser.com/datasheet/2/54/CHV-777595.pdf; Supplier 1: Mouser; Supplier Part Number 1: 652-CHV1206FX1004ELF; Price: 0.0173216; ComponentLink1Description: Datasheet
footprint CHV1206-Series
footprint R_ANY_CHIP_1206_MED
pins: 1, 2

## Resistor_6
designator R?, comment Tolerance: ±1%  Package: 0402  (hidden comment: 120)
120 Ohms ±1% 1/16W 0402 Thick Film Resistor; Part Number: RC0402FR-07120RL; Manufacturer: Yageo; Power Rating: 0.062W; Voltage: 50V; Component Status: Released; Temperature Stability: ±100ppm/°C; Replacement: NONE; Value: 120; Component Type: SMD; Part Type: Thick Film; Temperature Range: -55°C ~ 155°C; ComponentLink1URL: https://eu.mouser.com/datasheet/2/447/PYu_RC_Group_51_RoHS_L_10-1664068.pdf; Price: 0.00065; ComponentLink1Description: Datasheet
footprint R_ANY_CHIP_0402_MED
footprint R_ANY_CHIP_0402_HI
pins: 1, 2

## Resistor_7
designator R?, comment Tolerance: ±5%  Package: 0402  (hidden comment: 22)
22 Ohms ±5% 1/16W 0402 Thick Film Resistor; Part Number: RC0402JR-0722RL; Manufacturer: Yageo; Power Rating: 0.062W; Voltage: 50V; Temperature Stability: ±100ppm/°C; Replacement: NONE; Component Status: Released; Value: 22; Component Type: SMD; Temperature Range: -55°C ~ 155°C; ComponentLink1URL: https://eu.mouser.com/datasheet/2/447/PYu_RC_Group_51_RoHS_L_10-1664068.pdf; ComponentLink1Description: Datasheet; Price: 0,00045; Part Type: Thick Film
footprint R_ANY_CHIP_0402_MED
footprint R_ANY_CHIP_0402_HI
pins: 1, 2

## SM712.TCT
designator VD?
TVS Diode 26V and 19V Clamp, 21A and 38A (8/20us) Ipp, SOT-23; Manufacturer: Semtech; Marking: 712; Component Status: Released; Standard Lead Time: 2 Weeks; Current: 21A, 38A; Voltage: 13.3V, 7.5V; Replacement: NONE; Part Number: SM712.TCT; Part Type: TVS / ESD Protection; Component Type: SMD; Package: SOT-23; Temperature Range: -55°C ~ 125°C; ComponentLink1URL: https://semtech.my.salesforce.com/sfc/p/#E0000000JelG/a/440000001MKW/f6pBKheIN2CeR0DxWdS3THuJ7nh4aKYltSzghsLP5iw; Supplier 1: Digi-Key; Supplier Part Number 1: SM712TR-ND; Price: 0,25; ComponentLink1Description: Datasheet
footprint SOT-23_MED
footprint SOT-23_HI
pins: 1, 2, 3

## SN65HVD72DRBR
designator DD?  Package: VDFN-8  (hidden comment: SN65HVD72DRBR)
3.3V 1/1 Transceiver Half RS422 Up to 250 kbps, RS485 With IEC ESD protection, SON-8; Manufacturer: Texas Instruments; Standard Lead Time: 16 Weeks; Component Status: Released; Replacement: NONE; Part Number: SN65HVD72DRBR; Part Type: Transceivers / RS-232/RS-422/RS-485; Component Type: SMD; Temperature Range: -40°C ~ 125°C; ComponentLink1URL: https://www.ti.com/lit/ds/symlink/sn65hvd72.pdf; Supplier 1: Digi-Key; Supplier Part Number 1: 296-40520-2-ND; Price: 0.709; ComponentLink1Description: Datasheet
footprint TI-SON8-65P300X100_HS
footprint TI-SON8-65P300X100_HS_AbsentVias
pins: 1 RO, 2 ~{RE}, 3 DE, 4 DI, 5 GND, 6 A, 7 B, 8 VCC, 9 TP
text: R; RE; D

## Test-Point-SMD-1
designator TP?, comment LED_LINK  (value not drawn)  (no BOM)
Test Point SMD Pad 1.0mm/1.5mm/2mm; Part Number: TP-PAD-SMD; Replacement: NONE; Part Type: Test Point; Component Type: SMD; Temperature Range: NONE; ComponentLink1URL: NONE; ComponentLink1Description: Datasheet
footprint TP_SMD_1mm
footprint TP_SMD_1.5mm
footprint TP_SMD_2mm
footprint TP_SMD_2.8mm
pins: 1

## TP-PAD-SMD
designator TP?, comment LED_LINK  (value not drawn)  (no BOM)
Test Point SMD Pad 1.0mm/1.5mm/2mm; Part Number: TP-PAD-SMD; Part Type: Test Point; Component Type: SMD
footprint TP_SMD_1mm
footprint TP_SMD_1.5mm
footprint TP_SMD_2mm
footprint TP_SMD_2.8mm
pins: 1

## TPS54360B
designator DD?, comment Package: SOIC-8  (hidden comment: TPS54360BDDAR)
60V Input, 3.5A, Step-Down DC/DC Converter With Eco-Mode, SOIC-8 EP; Manufacturer: Texas Instruments; Standard Lead Time: 16 Weeks; Replacement: NONE; Component Status: Released; Part Number: TPS54360BDDAR; Part Type: Power / DC-DC / Buck; Component Type: SMD; Temperature Range: -40°C ~ 150°C; ComponentLink1URL: https://www.ti.com/lit/ds/symlink/tps54360b.pdf; Supplier 1: Digi-Key; Supplier Part Number 1: 296-TPS54360BDDARTR-ND; ComponentLink1Description: Datasheet; Price: 5,11
footprint SOIC127P620X170_HS-9N
pins: 1 BOOT, 2 VIN, 3 EN, 4 RT/CLK, 5 FB, 6 COMP, 7 GND, 8 SW, 9 PowPad

## USB4105-GF-A
designator X?  (value not drawn)
USB Type-C Connector, USB2.0, 16 Contacts, Right Angle; Manufacturer: GCT; Replacement: NONE; Component Status: Released; Part Number: USB4105-GF-A; Part Type: USB; Component Type: SMD; Temperature Range: -40°C ~ 85°C; ComponentLink1URL: https://eu.mouser.com/datasheet/2/837/USB4105-2888174.pdf; Supplier 1: Digi-Key; Supplier Part Number 1: 2073-USB4105-GF-ATR-ND; Price: 0,507; ComponentLink1Description: Datasheet
footprint USB4105-GF-A
pins: A1 GND, A4 VBUS, A5 CC1, A6 DP1, A7 DN1, A8 SBU1, A9 VBUS, A12 GND, B1 GND, B4 VBUS, B5 CC2, B6 DP2, B7 DN2, B8 SBU2, B9 VBUS, B12 GND, MS CHASSIS
text: Type-C; USB 2.0

## USBLC6-2
designator VD?, comment USBLC6-2P6
TVS Diode 17V @ 5A (8/20us) Clamping, Very Low Capacitance 3.5pF max, Low Leakage, Rail-to-Rail ESD Protection Diode Array, SOT-666; Manufacturer: STMicroelectronics; Marking: F; Standard Lead Time: 29 Weeks; Voltage: 6V; Replacement: NONE; Component Status: Released; Part Number: USBLC6-2P6; Part Type: TVS / ESD Protection; Component Type: SMD; Package: SOT-666; Temperature Range: -40°C ~ 125°C; ComponentLink1URL: https://www.st.com/content/ccc/resource/technical/document/datasheet/06/1d/48/9c/6c/20/4a/b2/CD00050750.pdf/files/CD00050750.pdf/jcr:content/translations/en.CD00050750.pdf; Supplier 1: Digi-Key; Supplier Part Number 1: 497-5026-2-ND; ComponentLink1Description: Datasheet; Current: 5A; Price: 0,0908
footprint SOT-666
pins: 1 D+IN, 2 GND, 3 D-IN, 4 D-OUT, 5 VBUS, 6 D+OUT